# EAGLE library part INA333AIDGKR (library ina333)
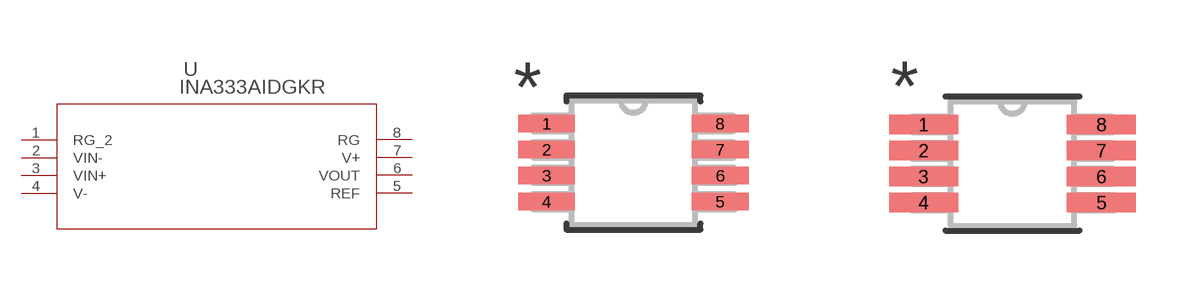
[diagram p0: symbol with the pads of DGK8; footprints DGK8, DGK8-M]

Designator prefix U

## INA333AIDGKR (MANUFACTURER_PART_NUMBER: INA333AIDGKR; VENDOR: Texas Instruments)  [DGK8]
1  RG_2  pas
2  VIN-  in
3  VIN+  in
4  V-  pwr
5  REF  pas
6  VOUT  out
7  V+  pwr
8  RG  pas

## INA333AIDGKRDGK8-M (MANUFACTURER_PART_NUMBER: INA333AIDGKR; VENDOR: Texas Instruments)  [DGK8-M]
Pads as for DGK8

## INA333AIDGKRDGK8-L (MANUFACTURER_PART_NUMBER: INA333AIDGKR; VENDOR: Texas Instruments)  [DGK8-L]
Pads as for DGK8

## Footprint DGK8 (pad centres in mm)
smd 1.422 x 0.432: 1 -2.172,0.975; 2 -2.172,0.325; 3 -2.172,-0.325; 4 -2.172,-0.975; 5 2.172,-0.975; 6 2.172,-0.325; 7 2.172,0.325; 8 2.172,0.975

## Footprint DGK8-M (pad centres in mm)
smd 1.727 x 0.483: 1 -2.223,0.975; 2 -2.223,0.325; 3 -2.223,-0.325; 4 -2.223,-0.975; 5 2.223,-0.975; 6 2.223,-0.325; 7 2.223,0.325; 8 2.223,0.975

## Footprint DGK8-L (pad centres in mm)
smd 1.118 x 0.381: 1 -2.121,0.975; 2 -2.121,0.325; 3 -2.121,-0.325; 4 -2.121,-0.975; 5 2.121,-0.975; 6 2.121,-0.325; 7 2.121,0.325; 8 2.121,0.975